# EAGLE library part ATSAME70N19A-AN (library microcontrollers)
ARM® Cortex®-M7 SAM E70 Microcontroller IC 32-Bit 300MHz 512KB (512K x 8) FLASH 100-LQFP (14x14)
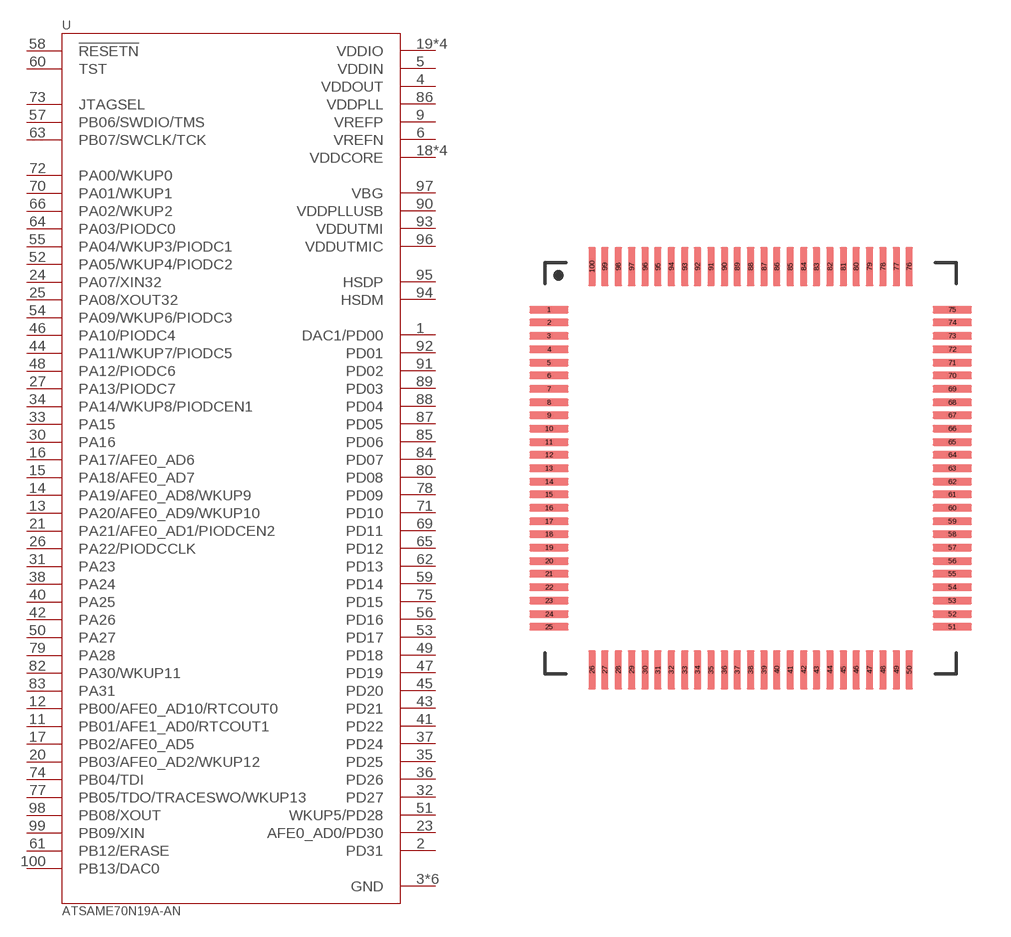
[diagram p3: symbol with the pads of LQFP-100; footprint LQFP-100]

Designator prefix U

## ATSAME70N19A-AN (MF: Atmel; MP: ATSAME70N19A-AN; VALUE: ATSAME70N19A)  [LQFP-100]
1  DAC1/PD00
2  PD31
3  GND  pwr
4  VDDOUT  pwr
5  VDDIN  pwr
6  VREFN  pwr
7  GND  pwr
8  GND  pwr
9  VREFP  pwr
10  GND  pwr
11  PB01/AFE1_AD0/RTCOUT1
12  PB00/AFE0_AD10/RTCOUT0
13  PA20/AFE0_AD9/WKUP10
14  PA19/AFE0_AD8/WKUP9
15  PA18/AFE0_AD7
16  PA17/AFE0_AD6
17  PB02/AFE0_AD5
18  VDDCORE  pwr
19  VDDIO  pwr
20  PB03/AFE0_AD2/WKUP12
21  PA21/AFE0_AD1/PIODCEN2
22  VDDCORE  pwr
23  AFE0_AD0/PD30
24  PA07/XIN32
25  PA08/XOUT32
26  PA22/PIODCCLK
27  PA13/PIODC7
28  VDDIO  pwr
29  GND  pwr
30  PA16
31  PA23
32  PD27
33  PA15
34  PA14/WKUP8/PIODCEN1
35  PD25
36  PD26
37  PD24
38  PA24
39  VDDCORE  pwr
40  PA25
41  PD22
42  PA26
43  PD21
44  PA11/WKUP7/PIODC5
45  PD20
46  PA10/PIODC4
47  PD19
48  PA12/PIODC6
49  PD18
50  PA27
51  WKUP5/PD28
52  PA05/WKUP4/PIODC2
53  PD17
54  PA09/WKUP6/PIODC3
55  PA04/WKUP3/PIODC1
56  PD16
57  PB06/SWDIO/TMS
58  !RESETN  in
59  PD14
60  TST
61  PB12/ERASE
62  PD13
63  PB07/SWCLK/TCK
64  PA03/PIODC0
65  PD12
66  PA02/WKUP2
67  GND  pwr
68  VDDIO  pwr
69  PD11
70  PA01/WKUP1
71  PD10
72  PA00/WKUP0
73  JTAGSEL
74  PB04/TDI
75  PD15
76  VDDCORE  pwr
77  PB05/TDO/TRACESWO/WKUP13
78  PD09
79  PA28
80  PD08
81  VDDIO  pwr
82  PA30/WKUP11
83  PA31
84  PD07
85  PD06
86  VDDPLL  pwr
87  PD05
88  PD04
89  PD03
90  VDDPLLUSB  pwr
91  PD02
92  PD01
93  VDDUTMI  pwr
94  HSDM
95  HSDP
96  VDDUTMIC  pwr
97  VBG  pwr
98  PB08/XOUT
99  PB09/XIN
100  PB13/DAC0

## Footprint LQFP-100 (pad centres in mm)
smd 1.473 x 0.279: 1 -7.62,5.994; 2 -7.62,5.512; 3 -7.62,5.004; 4 -7.62,4.496; 5 -7.62,3.988; 6 -7.62,3.505; 7 -7.62,2.997; 8 -7.62,2.489; 9 -7.62,2.007; 10 -7.62,1.499; 11 -7.62,0.991; 12 -7.62,0.508; 13 -7.62,0; 14 -7.62,-0.508; 15 -7.62,-0.991; 16 -7.62,-1.499; 17 -7.62,-2.007; 18 -7.62,-2.489; 19 -7.62,-2.997; 20 -7.62,-3.505; 21 -7.62,-3.988; 22 -7.62,-4.496; 23 -7.62,-5.004; 24 -7.62,-5.512; 25 -7.62,-5.994; 51 7.62,-5.994; 52 7.62,-5.512; 53 7.62,-5.004; 54 7.62,-4.496; 55 7.62,-3.988; 56 7.62,-3.505; 57 7.62,-2.997; 58 7.62,-2.489; 59 7.62,-2.007; 60 7.62,-1.499; 61 7.62,-0.991; 62 7.62,-0.508; 63 7.62,0; 64 7.62,0.508; 65 7.62,0.991; 66 7.62,1.499; 67 7.62,2.007; 68 7.62,2.489; 69 7.62,2.997; 70 7.62,3.505; 71 7.62,3.988; 72 7.62,4.496; 73 7.62,5.004; 74 7.62,5.512; 75 7.62,5.994
smd 0.279 x 1.473: 26 -5.994,-7.62; 27 -5.512,-7.62; 28 -5.004,-7.62; 29 -4.496,-7.62; 30 -3.988,-7.62; 31 -3.505,-7.62; 32 -2.997,-7.62; 33 -2.489,-7.62; 34 -2.007,-7.62; 35 -1.499,-7.62; 36 -0.991,-7.62; 37 -0.508,-7.62; 38 0,-7.62; 39 0.508,-7.62; 40 0.991,-7.62; 41 1.499,-7.62; 42 2.007,-7.62; 43 2.489,-7.62; 44 2.997,-7.62; 45 3.505,-7.62; 46 3.988,-7.62; 47 4.496,-7.62; 48 5.004,-7.62; 49 5.512,-7.62; 50 5.994,-7.62; 76 5.994,7.62; 77 5.512,7.62; 78 5.004,7.62; 79 4.496,7.62; 80 3.988,7.62; 81 3.505,7.62; 82 2.997,7.62; 83 2.489,7.62; 84 2.007,7.62; 85 1.499,7.62; 86 0.991,7.62; 87 0.508,7.62; 88 0,7.62; 89 -0.508,7.62; 90 -0.991,7.62; 91 -1.499,7.62; 92 -2.007,7.62; 93 -2.489,7.62; 94 -2.997,7.62; 95 -3.505,7.62; 96 -3.988,7.62; 97 -4.496,7.62; 98 -5.004,7.62; 99 -5.512,7.62; 100 -5.994,7.62